# EAGLE library part MC33035DWG (library ON_Semiconductor_By_element14_Batch_1)
Brushless DC Motor Controller
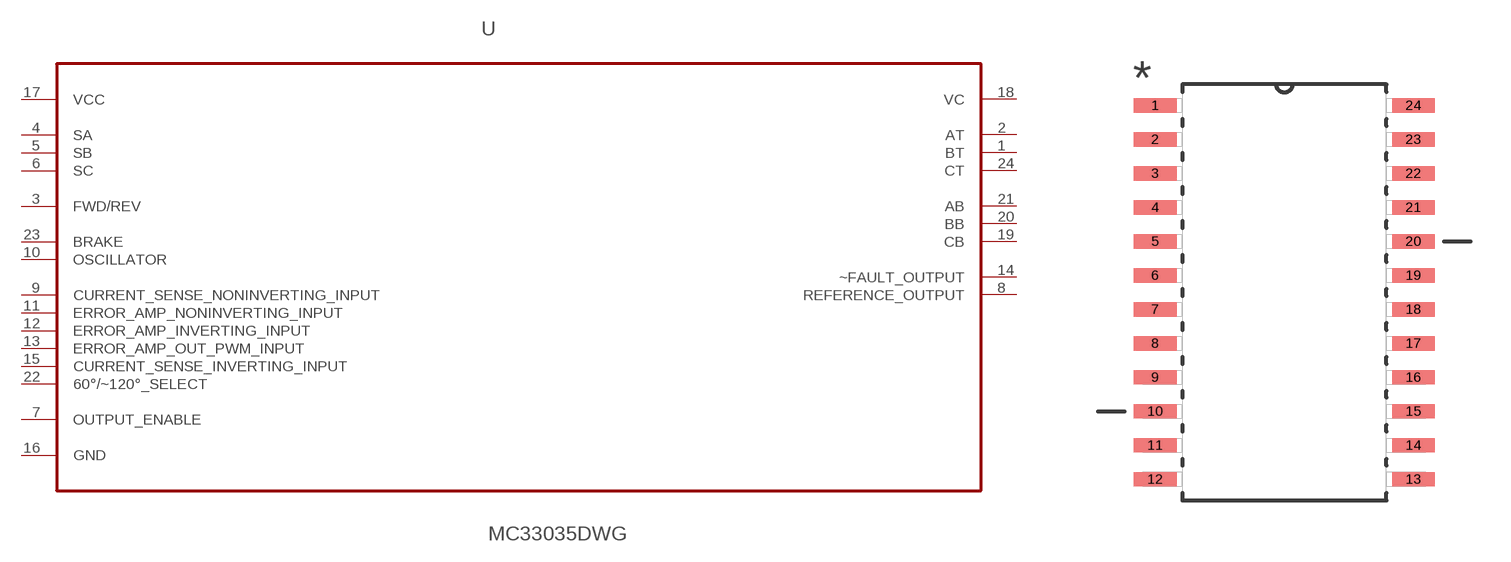
[diagram p319: symbol with the pads of SOIC127P1030X265-24N; footprint SOIC127P1030X265-24N]

Designator prefix U

## MC33035DWG (MPN: MC33035DWG; OC_FARNELL: 1652428; OC_NEWARK: 26K3990; PACKAGE: SOIC-24; SUPPLIER: ON SEMICONDUCTOR)  [SOIC127P1030X265-24N]
1  BT  out
2  AT  out
3  FWD/REV  in
4  SA  in
5  SB  in
6  SC  in
7  OUTPUT_ENABLE  in
8  REFERENCE_OUTPUT  out
9  CURRENT_SENSE_NONINVERTING_INPUT  in
10  OSCILLATOR  in
11  ERROR_AMP_NONINVERTING_INPUT  in
12  ERROR_AMP_INVERTING_INPUT  in
13  ERROR_AMP_OUT_PWM_INPUT  in
14  ~FAULT_OUTPUT  out
15  CURRENT_SENSE_INVERTING_INPUT  in
16  GND  pas
17  VCC  pwr
18  VC  out
19  CB  out
20  BB  out
21  AB  out
22  60°/~120°_SELECT  in
23  BRAKE  in
24  CT  out

## Footprint SOIC127P1030X265-24N (pad centres in mm)
smd 1.6 x 0.533: 1 -4.826,6.985; 2 -4.826,5.715; 3 -4.826,4.445; 4 -4.826,3.175; 5 -4.826,1.905; 6 -4.826,0.635; 7 -4.826,-0.635; 8 -4.826,-1.905; 9 -4.826,-3.175; 10 -4.826,-4.445; 11 -4.826,-5.715; 12 -4.826,-6.985; 13 4.826,-6.985; 14 4.826,-5.715; 15 4.826,-4.445; 16 4.826,-3.175; 17 4.826,-1.905; 18 4.826,-0.635; 19 4.826,0.635; 20 4.826,1.905; 21 4.826,3.175; 22 4.826,4.445; 23 4.826,5.715; 24 4.826,6.985